# Altium schematic symbol library TLV76733DGNR.SchLib: 1 symbol
Pins are listed as number, name and electrical type; pins without a type are passive.

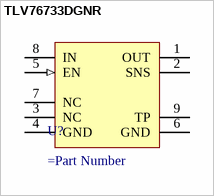
[diagram p0: symbol TLV76733DGNR]

## TLV76733DGNR
designator U?
=Description
pins: 1 OUT (power), 2 SNS (power), 3 NC, 4 GND (power), 5 EN (in), 6 GND (power), 7 NC, 8 IN (power), 9 TP